# Altium schematic symbol library MPL-AT2512-3R3.SchLib: 1 symbol
Pins are listed as number, name and electrical type; pins without a type are passive.

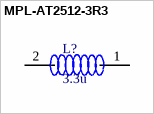
[diagram p0: symbol MPL-AT2512-3R3]

## MPL-AT2512-3R3
designator L?, comment 3.3u
Low-Profile Molded Inductor 3.3µH; Manufacturer_Part_Number: MPL-AT2512-3R3
footprint MPL-AT2512-XXX (Chip Inductor, 2-Leads, Body 2.50x2.00mm, IPC Medium Density)
pins: 1, 2